# Altium schematic symbol library Motors.SCHLIB: 5 symbols
Pins are listed as number, name and electrical type; pins without a type are passive.

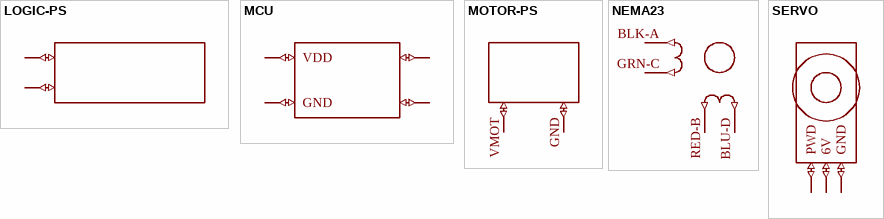
[diagram p0: symbols LOGIC-PS to SERVO]

## LOGIC-PS
designator ?
GateName_1: G$1; SymbolName_1: LOGIC-PS; LibraryName: Motors; DeviceSetName: LOGIC-PS; Package: LOGIC-PS
footprint LOGIC-PS
pins: P$1 (io), P$2 (io)

## MCU
designator ?
GateName_1: G$1; SymbolName_1: MCU; LibraryName: Motors; DeviceSetName: MCU; Package: MCU
footprint MCU
pins: P$1 GND (io), P$2 VDD (io), P$3 P$1 (io), P$4 P$2 (io)

## MOTOR-PS
designator ?
GateName_1: G$1; SymbolName_1: MOTOR-PS; LibraryName: Motors; DeviceSetName: MOTOR-PS; Package: MOTOR-PS
footprint MOTOR-PS
pins: GND P$1 (io), VMOT P$2 (io)

## NEMA23
designator ?
GateName_1: G$1; SymbolName_1: NEMA23; LibraryName: Motors; DeviceSetName: NEMA23; Package: NEMA23
footprint NEMA23
pins: BLK-A (out), BLU-D (out), GRN-C (out), RED-B (out)

## SERVO
designator ?
GateName_1: G$1; SymbolName_1: SERVO; LibraryName: Motors; DeviceSetName: SERVO; Package: SERVO
footprint SERVO
pins: P$1 6V (io), P$2 GND (io), P$3 PWD (io)